# EAGLE library part ADF4360-7 (library analog-devices)
Integrated Synthesizer and VCO Analog Devices
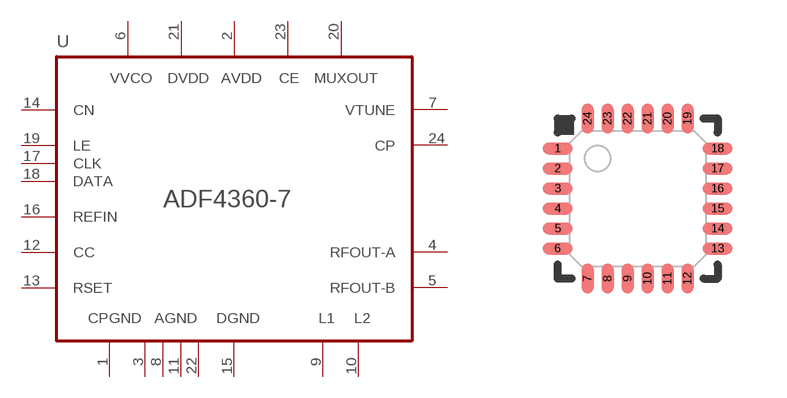
[diagram p53: symbol with the pads of LFCSP24_VQ; footprint LFCSP24_VQ]

Designator prefix U

## ADF4360-7  [LFCSP24_VQ]
1  CPGND  pwr
2  AVDD  pwr
3  AGND  pwr
4  RFOUT-A  out
5  RFOUT-B  out
6  VVCO  pwr
7  VTUNE  in
8  AGND  pwr
9  L1  pas
10  L2  pas
11  AGND  pwr
12  CC  pas
13  RSET  pas
14  CN  pas
15  DGND  pwr
16  REFIN  in
17  CLK  in
18  DATA  in
19  LE  in
20  MUXOUT  out
21  DVDD  pwr
22  AGND  pwr
23  CE  in
24  CP  in

## Footprint LFCSP24_VQ (pad centres in mm)
LFCSP_VQ 24 4 mm × 4 mm Body, Very Thin Quad
smd 0.75 x 0.3: 1 -2,1.25; 2 -2,0.75; 3 -2,0.25; 4 -2,-0.25; 5 -2,-0.75; 6 -2,-1.25; 13 2,-1.25; 14 2,-0.75; 15 2,-0.25; 16 2,0.25; 17 2,0.75; 18 2,1.25
smd 0.3 x 0.75: 7 -1.25,-2; 8 -0.75,-2; 9 -0.25,-2; 10 0.25,-2; 11 0.75,-2; 12 1.25,-2; 19 1.25,2; 20 0.75,2; 21 0.25,2; 22 -0.25,2; 23 -0.75,2; 24 -1.25,2